# EAGLE library part ATTINY25 (library n39_avr)
Atmel AVR-RISC-Controller
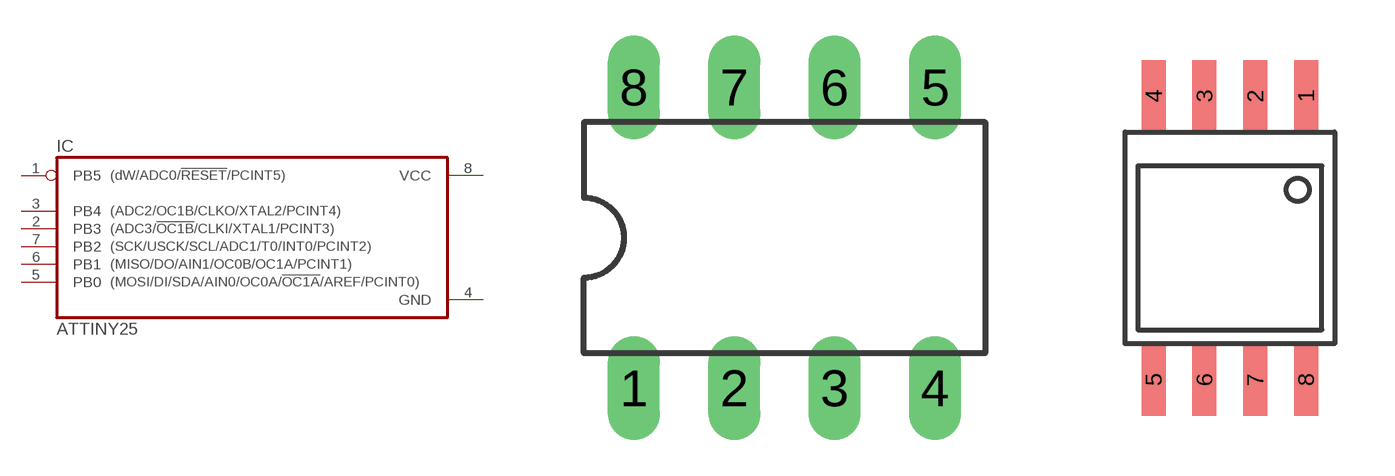
[diagram p0: symbol with the pads of 8P3; footprints 8P3, 8S2]

Designator prefix IC

## ATTINY25-20PU (REICHELT: ATTINY 25-20 PU), ATTINY25V-10PU (REICHELT: ATTINY 25V-10 PU)  [8P3]
1  PB5
2  PB3
3  PB4
4  GND  pwr
5  PB0
6  PB1
7  PB2
8  VCC  pwr

## ATTINY25-20SU (REICHELT: ATTINY 25-20 SU), ATTINY25V-10SU (REICHELT: ATTINY 25V-10 SU)  [8S2]
Pads as for 8P3

## ATTINY25-20XU, ATTINY25V-10XU  [8X]
Pads as for 8P3

## ATTINY25-20SSU, ATTINY25V-10SSU  [S8S1]
Pads as for 8P3

## Footprint 8P3 (pad centres in mm)
8P3, 8-lead, 0.300" Wide Body, Plastic Dual In-line Package (PDIP)
drill 0.813 long: 1 -3.81,-3.81; 2 -1.27,-3.81; 3 1.27,-3.81; 4 3.81,-3.81; 5 3.81,3.81; 6 1.27,3.81; 7 -1.27,3.81; 8 -3.81,3.81

## Footprint 8S2 (pad centres in mm)
8S2, 8-lead, 0.208” Body, Plastic Small Outline Package (EIAJ)
smd 0.6 x 1.8: 1 1.905,3.55; 2 0.635,3.55; 3 -0.635,3.55; 4 -1.905,3.55; 5 -1.905,-3.55; 6 -0.635,-3.55; 7 0.635,-3.55; 8 1.905,-3.55

## Footprint 8X (pad centres in mm)
8X, 8-lead, 4.4 mm Body Width, Plastic Thin Shrink Small Outline Package (TSSOP)
smd 0.45 x 1.45: 1 0.975,2.9; 2 0.325,2.9; 3 -0.325,2.9; 4 -0.975,2.9; 5 -0.975,-2.9; 6 -0.325,-2.9; 7 0.325,-2.9; 8 0.975,-2.9

## Footprint S8S1 (pad centres in mm)
S8S1, 8-lead, 0.150" Wide Body, Plastic Gull Wing Small Outline (JEDEC SOIC)
smd 0.6 x 1.6: 1 1.905,2.7; 2 0.635,2.7; 3 -0.635,2.7; 4 -1.905,2.7; 5 -1.905,-2.7; 6 -0.635,-2.7; 7 0.635,-2.7; 8 1.905,-2.7